# EAGLE library part LM723 (library stabilizatory)
VOLTAGE REGULATOR
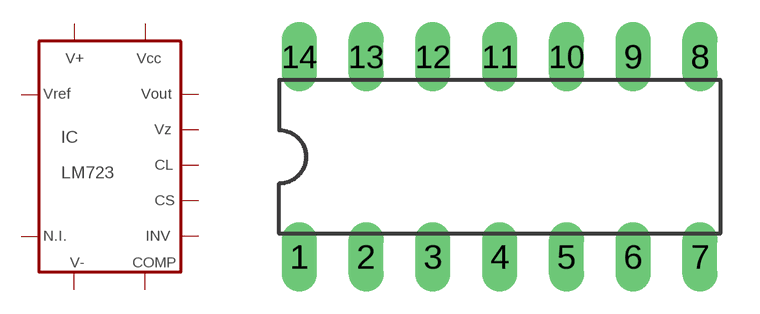
[diagram p16: symbol with the pads of DIL14; footprint DIL14]

Designator prefix IC

## LM723  [DIL14]
2  CL  pas
3  CS  pas
4  INV  pas
5  N.I.  in
6  VREF  in
7  V-  in
9  VZ  pas
10  VOUT  in
11  VCC  in
12  V+  in
13  COMP  in

## Footprint DIL14 (pad centres in mm)
Dual In Line Package
drill 0.813 long: 1 -7.62,-3.81; 2 -5.08,-3.81; 3 -2.54,-3.81; 4 0,-3.81; 5 2.54,-3.81; 6 5.08,-3.81; 7 7.62,-3.81; 8 7.62,3.81; 9 5.08,3.81; 10 2.54,3.81; 11 0,3.81; 12 -2.54,3.81; 13 -5.08,3.81; 14 -7.62,3.81